# EAGLE library part MAX682 (library zkseagle)
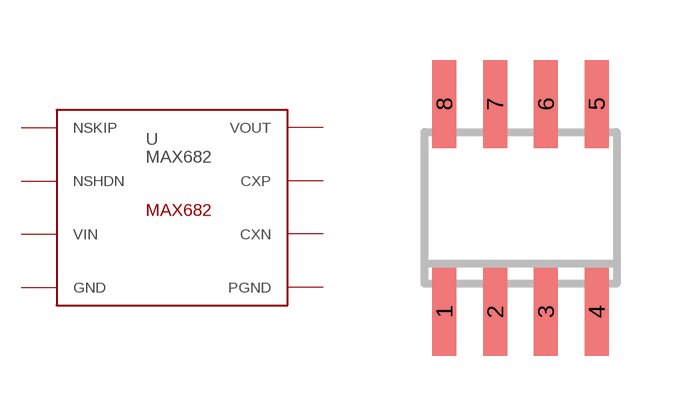
[diagram p25: symbol with the pads of SO08; footprint SO08]

Designator prefix -

## MAX682  [SO08]
1  NSKIP  in
2  NSHDN  in
3  VIN  pwr
4  GND  sup
5  PGND  sup
6  CXN
7  CXP
8  VOUT  pwr

## Footprint SO08 (pad centres in mm)
Small Outline Package 8 NS Package M08A
smd 0.6 x 2.2: 1 -1.905,-2.6; 2 -0.635,-2.6; 3 0.635,-2.6; 4 1.905,-2.6; 5 1.905,2.6; 6 0.635,2.6; 7 -0.635,2.6; 8 -1.905,2.6